# Altium schematic symbol library kmilo17pet-NSC_Interface.SchLib: 1433 symbols (part 47 of 51)
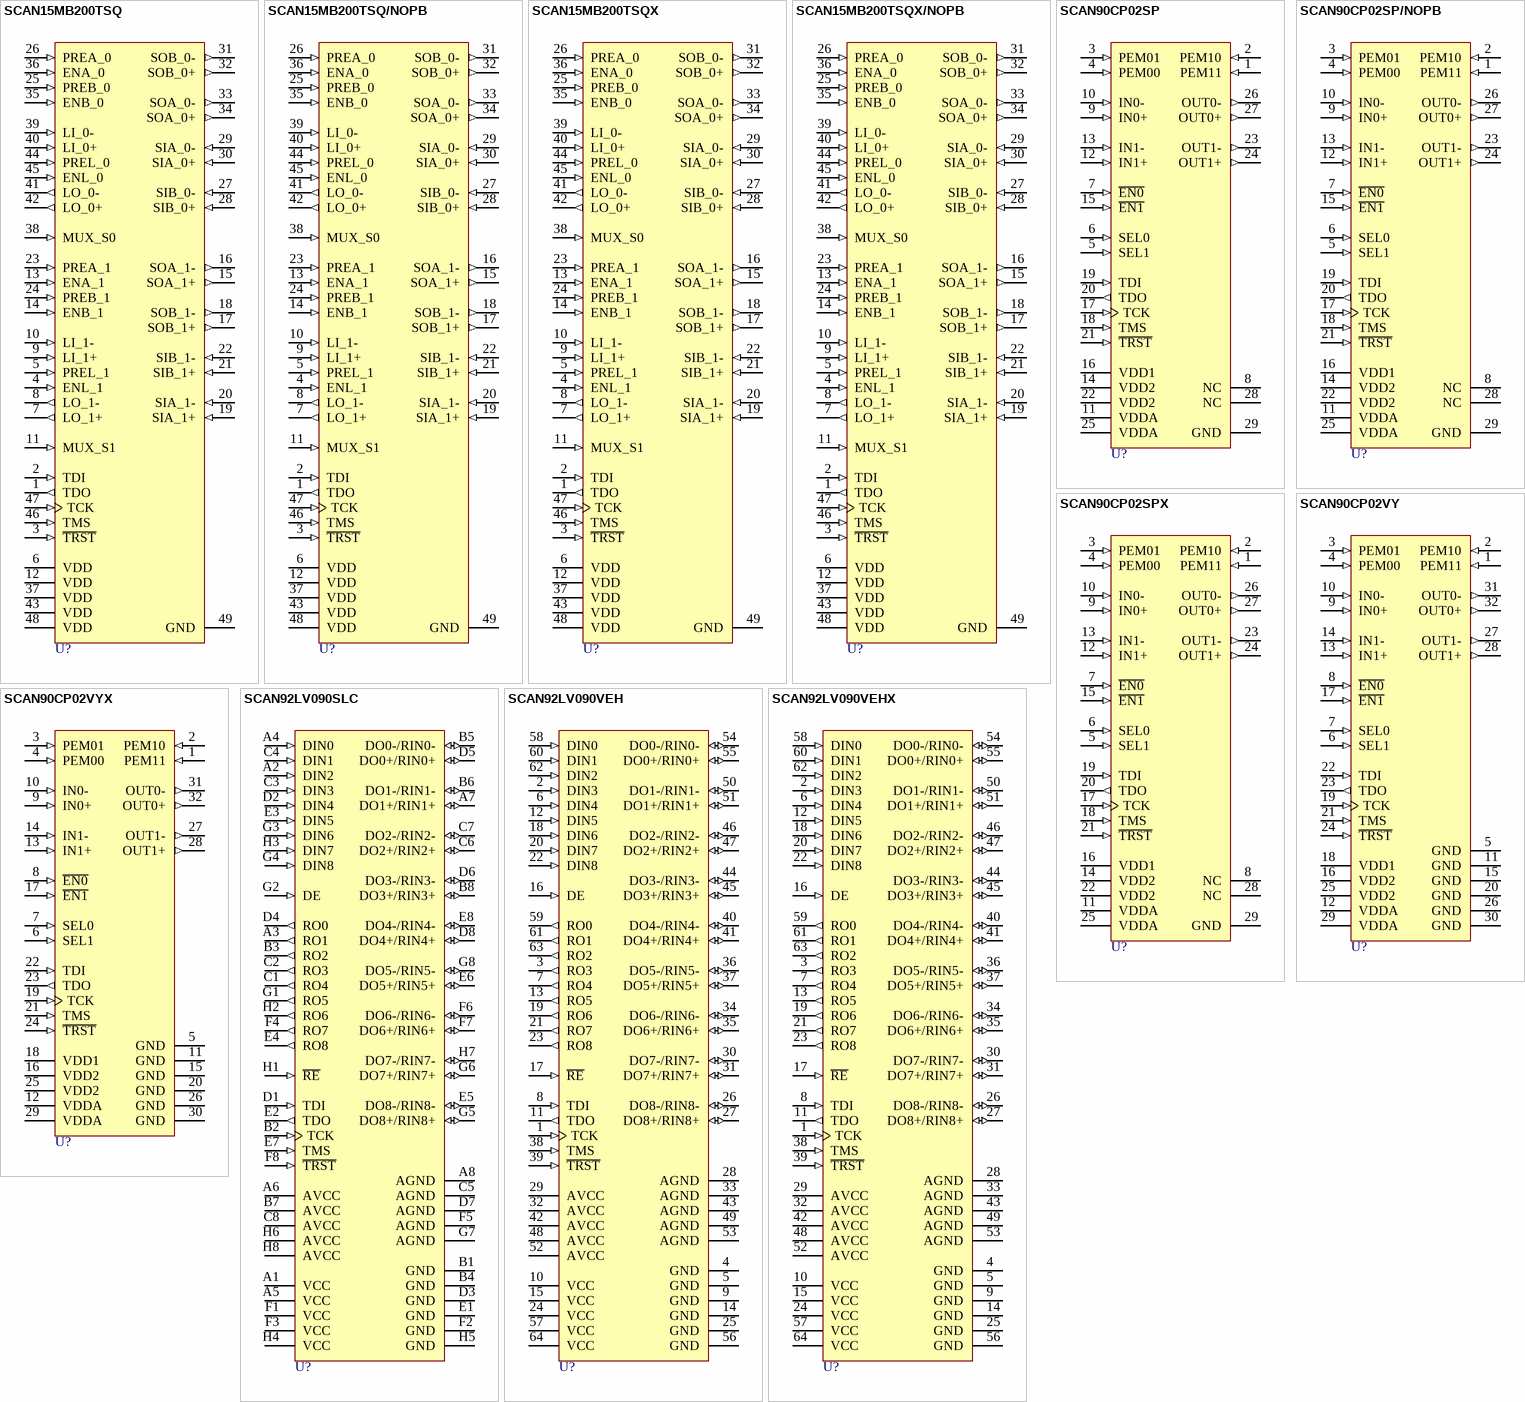
[diagram p170: symbols SCAN15MB200TSQ to SCAN92LV090VEHX]

## SCAN90CP02SPX
designator U?
1.5 Gbps 2x2 LVDS Crosspoint Switch with Pre-Emphasis and IEEE 1149.6, 28-pin LLP; PartNumber: SCAN90CP02SPX; Manufacturer: National Semiconductor; PackageTopMarking: NS*UZXYTT*SCP02SP; PowerWise: N; CompType: Interface IC; High-Reliability: Y; DatasheetVersion: Mar-2009; PackageVersion: revA, Aug-2003; PackageReference: SPA28A; PackageDescription: LLP, Plastic, Quad, 5 x 5 x 0.6mm Body, 28 Lead, 0.5mm Pitch, No Pullback; RoHS: N; PinCount: 28; Code_JEDEC: MO-220-WHHD-3; ComponentLink1Description: Manufacturer URL; ComponentLink1URL: http://www.national.com/; ComponentLink2Description: SCAN90CP02 Datasheet; ComponentLink2URL: http://www.national.com/ds/SC/SCAN90CP02.pdf; ComponentLink3Description: SCAN90CP02 Web Page; ComponentLink3URL: http://www.national.com/pf/SC/SCAN90CP02.html; ComponentLink4Description: SPA28A Package Page; ComponentLink4URL: http://www.national.com/packaging/folders/spa28a.html
footprint SPA28A (QFN, 28-Leads, Body 5x5mm, Pitch 0.5mm, Thermal Pad 3.7x3.7mm, NSC Recommended)
pins: 1 PEM11 (in), 2 PEM10 (in), 3 PEM01 (in), 4 PEM00 (in), 5 SEL1 (in), 6 SEL0 (in), 7 ~{EN0} (in), 8 NC, 9 IN0+ (in), 10 IN0- (in), 11 VDDA (power), 12 IN1+ (in), 13 IN1- (in), 14 VDD2 (power), 15 ~{EN1} (in), 16 VDD1 (power), 17 TCK (in), 18 TMS (in), 19 TDI (in), 20 TDO (out), 21 ~{TRST} (in), 22 VDD2 (power), 23 OUT1- (out), 24 OUT1+ (out), 25 VDDA (power), 26 OUT0- (out), 27 OUT0+ (out), 28 NC, 29 GND (power)

## SCAN90CP02VY
designator U?
1.5 Gbps 2x2 LVDS Crosspoint Switch with Pre-Emphasis and IEEE 1149.6, 32-pin LQFP; PartNumber: SCAN90CP02VY; Manufacturer: National Semiconductor; PackageTopMarking: NSUZXYTT*SCAN90*CP02VY; PowerWise: N; CompType: Interface IC; High-Reliability: Y; DatasheetVersion: Mar-2009; PackageVersion: revE, Dec-1999; PackageReference: VBE32A; PackageDescription: LQFP, JEDEC, Metric, 7 x 7 x 1.4mm, 32 Lead; RoHS: N; PinCount: 32; ComponentLink1Description: Manufacturer URL; ComponentLink1URL: http://www.national.com/; ComponentLink2Description: SCAN90CP02 Datasheet; ComponentLink2URL: http://www.national.com/ds/SC/SCAN90CP02.pdf; ComponentLink3Description: SCAN90CP02 Web Page; ComponentLink3URL: http://www.national.com/pf/SC/SCAN90CP02.html; ComponentLink4Description: VBE32A Package Page; ComponentLink4URL: http://www.national.com/packaging/folders/vbe32a.html
footprint VBE32A_N (Thin QFP, 32-Leads, Body 7x7mm, Pitch 0.8mm, IPC Medium Density)
footprint VBE32A_L (Thin QFP, 32-Leads, Body 7x7mm, Pitch 0.8mm, IPC High Density)
footprint VBE32A_M (Thin QFP, 32-Leads, Body 7x7mm, Pitch 0.8mm, IPC Low Density)
pins: 1 PEM11 (in), 2 PEM10 (in), 3 PEM01 (in), 4 PEM00 (in), 5 GND (power), 6 SEL1 (in), 7 SEL0 (in), 8 ~{EN0} (in), 9 IN0+ (in), 10 IN0- (in), 11 GND (power), 12 VDDA (power), 13 IN1+ (in), 14 IN1- (in), 15 GND (power), 16 VDD2 (power), 17 ~{EN1} (in), 18 VDD1 (power), 19 TCK (in), 20 GND (power), 21 TMS (in), 22 TDI (in), 23 TDO (out), 24 ~{TRST} (in), 25 VDD2 (power), 26 GND (power), 27 OUT1- (out), 28 OUT1+ (out), 29 VDDA (power), 30 GND (power), 31 OUT0- (out), 32 OUT0+ (out)

## SCAN90CP02VYX
designator U?
1.5 Gbps 2x2 LVDS Crosspoint Switch with Pre-Emphasis and IEEE 1149.6, 32-pin LQFP; PartNumber: SCAN90CP02VYX; Manufacturer: National Semiconductor; PackageTopMarking: NSUZXYTT*SCAN90*CP02VY; PowerWise: N; CompType: Interface IC; High-Reliability: Y; DatasheetVersion: Mar-2009; PackageVersion: revE, Dec-1999; PackageReference: VBE32A; PackageDescription: LQFP, JEDEC, Metric, 7 x 7 x 1.4mm, 32 Lead; RoHS: N; PinCount: 32; ComponentLink1Description: Manufacturer URL; ComponentLink1URL: http://www.national.com/; ComponentLink2Description: SCAN90CP02 Datasheet; ComponentLink2URL: http://www.national.com/ds/SC/SCAN90CP02.pdf; ComponentLink3Description: SCAN90CP02 Web Page; ComponentLink3URL: http://www.national.com/pf/SC/SCAN90CP02.html; ComponentLink4Description: VBE32A Package Page; ComponentLink4URL: http://www.national.com/packaging/folders/vbe32a.html
footprint VBE32A_N (Thin QFP, 32-Leads, Body 7x7mm, Pitch 0.8mm, IPC Medium Density)
footprint VBE32A_L (Thin QFP, 32-Leads, Body 7x7mm, Pitch 0.8mm, IPC High Density)
footprint VBE32A_M (Thin QFP, 32-Leads, Body 7x7mm, Pitch 0.8mm, IPC Low Density)
pins: 1 PEM11 (in), 2 PEM10 (in), 3 PEM01 (in), 4 PEM00 (in), 5 GND (power), 6 SEL1 (in), 7 SEL0 (in), 8 ~{EN0} (in), 9 IN0+ (in), 10 IN0- (in), 11 GND (power), 12 VDDA (power), 13 IN1+ (in), 14 IN1- (in), 15 GND (power), 16 VDD2 (power), 17 ~{EN1} (in), 18 VDD1 (power), 19 TCK (in), 20 GND (power), 21 TMS (in), 22 TDI (in), 23 TDO (out), 24 ~{TRST} (in), 25 VDD2 (power), 26 GND (power), 27 OUT1- (out), 28 OUT1+ (out), 29 VDDA (power), 30 GND (power), 31 OUT0- (out), 32 OUT0+ (out)

## SCAN92LV090SLC
designator U?
9 Channel Bus LVDS Transceiver with Boundary SCAN, 64-pin FBGA; PartNumber: SCAN92LV090SLC; Manufacturer: National Semiconductor; PackageTopMarking: NSUZXYTTE#*SCAN92LV090*SLC; PowerWise: N; CompType: Interface IC; High-Reliability: Y; DatasheetVersion: Dec-2006; PackageVersion: revC, Jan, 2003; PackageReference: SLC64A; PackageDescription: FBGA, Plastic, Laminated, 8 x 8 x 1.4mm Body, 64 Ball, 0.8mm Pitch; RoHS: N; PinCount: 64; ComponentLink1Description: Manufacturer URL; ComponentLink1URL: http://www.national.com/; ComponentLink2Description: SCAN92LV090 Datasheet; ComponentLink2URL: http://www.national.com/ds/SC/SCAN92LV090.pdf; ComponentLink3Description: SCAN92LV090 Web Page; ComponentLink3URL: http://www.national.com/pf/SC/SCAN92LV090.html; ComponentLink4Description: SLC64A Package Page; ComponentLink4URL: http://www.national.com/packaging/folders/slc64a.html
footprint SLC64A (BGA, 64-Leads, Body 8x8mm, Pitch 0.8mm)
pins: A1 VCC (power), A2 DIN2 (in), A3 RO1 (out), A4 DIN0 (in), A5 VCC (power), A6 AVCC (power), A7 DO1+/RIN1+ (io), A8 AGND (power), B1 GND (power), B2 TCK (in), B3 RO2 (out), B4 GND (power), B5 DO0-/RIN0- (io), B6 DO1-/RIN1- (io), B7 AVCC (power), B8 DO3+/RIN3+ (io), C1 RO4 (out), C2 RO3 (out), C3 DIN3 (in), C4 DIN1 (in), C5 AGND (power), C6 DO2+/RIN2+ (io), C7 DO2-/RIN2- (io), C8 AVCC (power), D1 TDI (in), D2 DIN4 (in), D3 GND (power), D4 RO0 (out), D5 DO0+/RIN0+ (io), D6 DO3-/RIN3- (io), D7 AGND (power), D8 DO4+/RIN4+ (io), E1 GND (power), E2 TDO (out), E3 DIN5 (in), E4 RO8 (out), E5 DO8-/RIN8- (io), E6 DO5+/RIN5+ (io), E7 TMS (in), E8 DO4-/RIN4- (io), F1 VCC (power), F2 GND (power), F3 VCC (power), F4 RO7 (out), F5 AGND (power), F6 DO6-/RIN6- (io), F7 DO6+/RIN6+ (io), F8 ~{TRST} (in), G1 RO5 (out), G2 DE (in), G3 DIN6 (in), G4 DIN8 (in), G5 DO8+/RIN8+ (io), G6 DO7+/RIN7+ (io), G7 AGND (power), G8 DO5-/RIN5- (io), H1 ~{RE} (in), H2 RO6 (out), H3 DIN7 (in), H4 VCC (power), H5 GND (power), H6 AVCC (power), H7 DO7-/RIN7- (io), H8 AVCC (power)

## SCAN92LV090VEH
designator U?
9 Channel Bus LVDS Transceiver with Boundary SCAN, 64-pin LQFP; PartNumber: SCAN92LV090VEH; Manufacturer: National Semiconductor; PackageTopMarking: NSUZXYYTTE#*SCAN92LV090*VEH; PowerWise: N; CompType: Interface IC; High-Reliability: Y; DatasheetVersion: Dec-2006; PackageVersion: revC, Dec-1999; PackageReference: VEH64A; PackageDescription: LQFP, Jedec, Metric, 10 x 10 x 1.4mm, 64 Lead; RoHS: N; PinCount: 64; Code_JEDEC: MS-026-BCD; ComponentLink1Description: Manufacturer URL; ComponentLink1URL: http://www.national.com/; ComponentLink2Description: SCAN92LV090 Datasheet; ComponentLink2URL: http://www.national.com/ds/SC/SCAN92LV090.pdf; ComponentLink3Description: SCAN92LV090 Web Page; ComponentLink3URL: http://www.national.com/pf/SC/SCAN92LV090.html; ComponentLink4Description: VEH64A Package Page; ComponentLink4URL: http://www.national.com/packaging/folders/veh64a.html
footprint VEH64A_N (Thin QFP, 64-Leads, Body 10x10mm, Pitch 0.5mm, IPC Medium Density)
footprint VEH64A_L (Thin QFP, 64-Leads, Body 10x10mm, Pitch 0.5mm, IPC High Density)
footprint VEH64A_M (Thin QFP, 64-Leads, Body 10x10mm, Pitch 0.5mm, IPC Low Density)
pins: 1 TCK (in), 2 DIN3 (in), 3 RO3 (out), 4 GND (power), 5 GND (power), 6 DIN4 (in), 7 RO4 (out), 8 TDI (in), 9 GND (power), 10 VCC (power), 11 TDO (out), 12 DIN5 (in), 13 RO5 (out), 14 GND (power), 15 VCC (power), 16 DE (in), 17 ~{RE} (in), 18 DIN6 (in), 19 RO6 (out), 20 DIN7 (in), 21 RO7 (out), 22 DIN8 (in), 23 RO8 (out), 24 VCC (power), 25 GND (power), 26 DO8-/RIN8- (io), 27 DO8+/RIN8+ (io), 28 AGND (power), 29 AVCC (power), 30 DO7-/RIN7- (io), 31 DO7+/RIN7+ (io), 32 AVCC (power), 33 AGND (power), 34 DO6-/RIN6- (io), 35 DO6+/RIN6+ (io), 36 DO5-/RIN5- (io), 37 DO5+/RIN5+ (io), 38 TMS (in), 39 ~{TRST} (in), 40 DO4-/RIN4- (io), 41 DO4+/RIN4+ (io), 42 AVCC (power), 43 AGND (power), 44 DO3-/RIN3- (io), 45 DO3+/RIN3+ (io), 46 DO2-/RIN2- (io), 47 DO2+/RIN2+ (io), 48 AVCC (power), 49 AGND (power), 50 DO1-/RIN1- (io), 51 DO1+/RIN1+ (io), 52 AVCC (power), 53 AGND (power), 54 DO0-/RIN0- (io), 55 DO0+/RIN0+ (io), 56 GND (power), 57 VCC (power), 58 DIN0 (in), 59 RO0 (out), 60 DIN1 (in), 61 RO1 (out), 62 DIN2 (in), 63 RO2 (out), 64 VCC (power)

## SCAN92LV090VEHX
designator U?
9 Channel Bus LVDS Transceiver with Boundary SCAN, 64-pin LQFP; PartNumber: SCAN92LV090VEHX; Manufacturer: National Semiconductor; PackageTopMarking: NSUZXYYTTE#*SCAN92LV090*VEH; PowerWise: N; CompType: Interface IC; High-Reliability: Y; DatasheetVersion: Dec-2006; PackageVersion: revC, Dec-1999; PackageReference: VEH64A; PackageDescription: LQFP, Jedec, Metric, 10 x 10 x 1.4mm, 64 Lead; RoHS: N; PinCount: 64; Code_JEDEC: MS-026-BCD; ComponentLink1Description: Manufacturer URL; ComponentLink1URL: http://www.national.com/; ComponentLink2Description: SCAN92LV090 Datasheet; ComponentLink2URL: http://www.national.com/ds/SC/SCAN92LV090.pdf; ComponentLink3Description: SCAN92LV090 Web Page; ComponentLink3URL: http://www.national.com/pf/SC/SCAN92LV090.html; ComponentLink4Description: VEH64A Package Page; ComponentLink4URL: http://www.national.com/packaging/folders/veh64a.html
footprint VEH64A_N (Thin QFP, 64-Leads, Body 10x10mm, Pitch 0.5mm, IPC Medium Density)
footprint VEH64A_L (Thin QFP, 64-Leads, Body 10x10mm, Pitch 0.5mm, IPC High Density)
footprint VEH64A_M (Thin QFP, 64-Leads, Body 10x10mm, Pitch 0.5mm, IPC Low Density)
pins: 1 TCK (in), 2 DIN3 (in), 3 RO3 (out), 4 GND (power), 5 GND (power), 6 DIN4 (in), 7 RO4 (out), 8 TDI (in), 9 GND (power), 10 VCC (power), 11 TDO (out), 12 DIN5 (in), 13 RO5 (out), 14 GND (power), 15 VCC (power), 16 DE (in), 17 ~{RE} (in), 18 DIN6 (in), 19 RO6 (out), 20 DIN7 (in), 21 RO7 (out), 22 DIN8 (in), 23 RO8 (out), 24 VCC (power), 25 GND (power), 26 DO8-/RIN8- (io), 27 DO8+/RIN8+ (io), 28 AGND (power), 29 AVCC (power), 30 DO7-/RIN7- (io), 31 DO7+/RIN7+ (io), 32 AVCC (power), 33 AGND (power), 34 DO6-/RIN6- (io), 35 DO6+/RIN6+ (io), 36 DO5-/RIN5- (io), 37 DO5+/RIN5+ (io), 38 TMS (in), 39 ~{TRST} (in), 40 DO4-/RIN4- (io), 41 DO4+/RIN4+ (io), 42 AVCC (power), 43 AGND (power), 44 DO3-/RIN3- (io), 45 DO3+/RIN3+ (io), 46 DO2-/RIN2- (io), 47 DO2+/RIN2+ (io), 48 AVCC (power), 49 AGND (power), 50 DO1-/RIN1- (io), 51 DO1+/RIN1+ (io), 52 AVCC (power), 53 AGND (power), 54 DO0-/RIN0- (io), 55 DO0+/RIN0+ (io), 56 GND (power), 57 VCC (power), 58 DIN0 (in), 59 RO0 (out), 60 DIN1 (in), 61 RO1 (out), 62 DIN2 (in), 63 RO2 (out), 64 VCC (power)

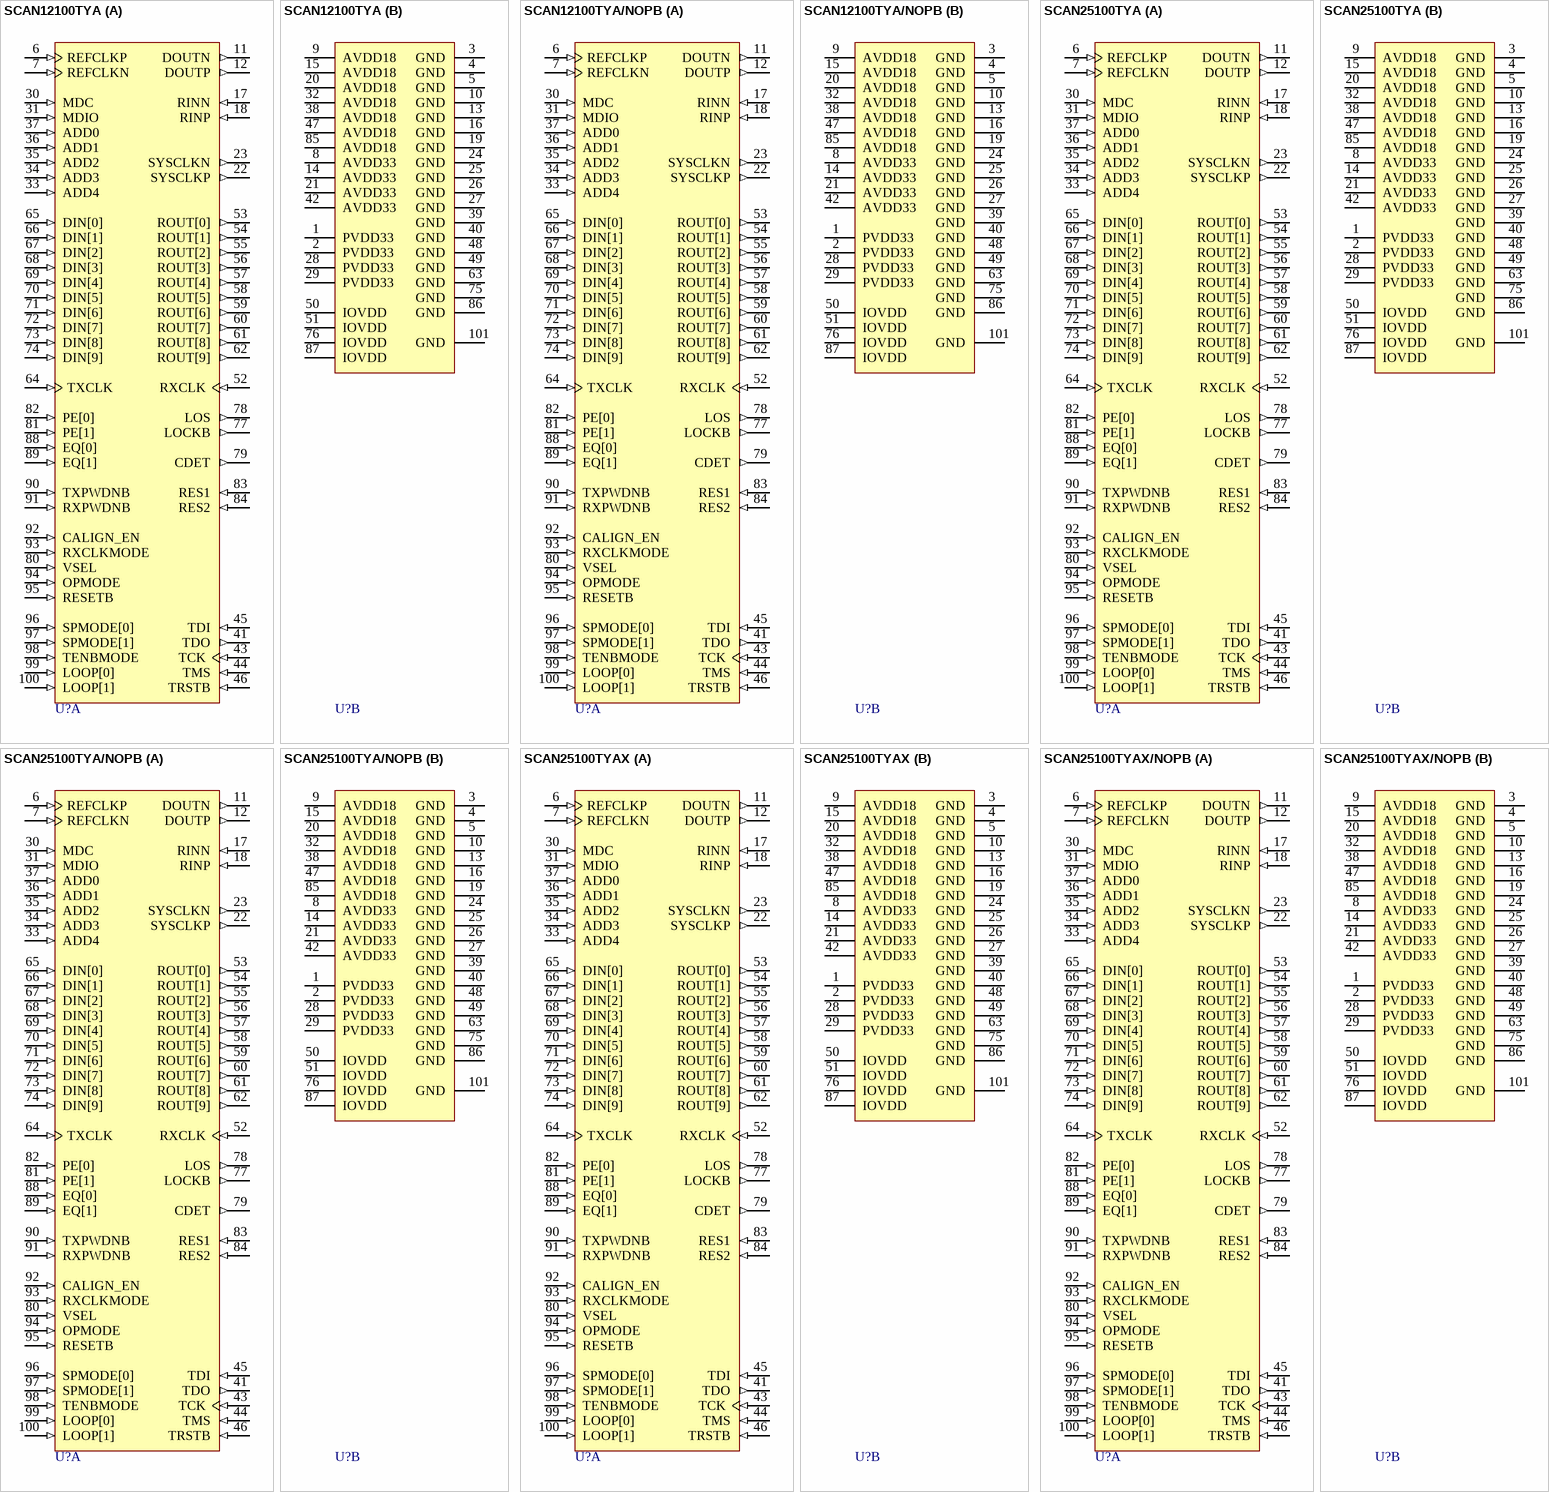
[diagram p113: symbols SCAN12100TYA to SCAN25100TYAX/NOPB]

## SCAN12100TYA
designator U?
1228.8 and 614.4 Mbps CPRI SerDes with Integrated 30.72 MHz Clocking and Precision Delay Calibration Measurement, 100-pin TQFP-EP; PartNumber: SCAN12100TYA; Manufacturer: National Semiconductor; PackageTopMarking: NSUZXYYTT*SCAN12100TYA; PowerWise: N; CompType: Interface IC; High-Reliability: Y; DatasheetVersion: May-2008; PackageVersion: revA, Jun-2005; PackageReference: VXF100B; PackageDescription: TQFP, 14 x 14 x 1mm, 100 Lead, 0.5mm Pitch, Exposed Pad, 6.5 x 6.5mm; RoHS: Y; PinCount: 100; Code_JEDEC: MS-026-AED-HD; ComponentLink1Description: Manufacturer URL; ComponentLink1URL: http://www.national.com/; ComponentLink2Description: SCAN12100 Datasheet; ComponentLink2URL: http://www.national.com/ds/SC/SCAN12100.pdf; ComponentLink3Description: SCAN12100 Web Page; ComponentLink3URL: http://www.national.com/pf/SC/SCAN12100.html; ComponentLink4Description: VXF100B Package Page; ComponentLink4URL: http://www.national.com/packaging/folders/vxf100b.html
footprint VXF100B_N (Thin QFP, 100-Leads, Body 14x14mm, Pitch 0.5mm, Exposed Pad, IPC Medium Density)
footprint VXF100B_L (Thin QFP, 100-Leads, Body 14x14mm, Pitch 0.5mm, Exposed Pad, IPC High Density)
footprint VXF100B_M (Thin QFP, 100-Leads, Body 14x14mm, Pitch 0.5mm, Exposed Pad, IPC Low Density)
part A pins: 6 REFCLKP (in), 7 REFCLKN (in), 11 DOUTN (out), 12 DOUTP (out), 17 RINN (in), 18 RINP (in), 22 SYSCLKP (out), 23 SYSCLKN (out), 30 MDC (in), 31 MDIO (in), 33 ADD4 (in), 34 ADD3 (in), 35 ADD2 (in), 36 ADD1 (in), 37 ADD0 (in), 41 TDO (out), 43 TCK (in), 44 TMS (in), 45 TDI (in), 46 TRSTB (in), 52 RXCLK (in), 53 ROUT[0] (out), 54 ROUT[1] (out), 55 ROUT[2] (out), 56 ROUT[3] (out), 57 ROUT[4] (out), 58 ROUT[5] (out), 59 ROUT[6] (out), 60 ROUT[7] (out), 61 ROUT[8] (out), 62 ROUT[9] (out), 64 TXCLK (in), 65 DIN[0] (in), 66 DIN[1] (in), 67 DIN[2] (in), 68 DIN[3] (in), 69 DIN[4] (in), 70 DIN[5] (in), 71 DIN[6] (in), 72 DIN[7] (in), 73 DIN[8] (in), 74 DIN[9] (in), 77 LOCKB (out), 78 LOS (out), 79 CDET (out), 80 VSEL (in), 81 PE[1] (in), 82 PE[0] (in), 83 RES1 (in), 84 RES2 (in), 88 EQ[0] (in), 89 EQ[1] (in), 90 TXPWDNB (in), 91 RXPWDNB (in), 92 CALIGN_EN (in), 93 RXCLKMODE (in), 94 OPMODE (in), 95 RESETB (in), 96 SPMODE[0] (in), 97 SPMODE[1] (in), 98 TENBMODE (in), 99 LOOP[0] (in), 100 LOOP[1] (in)
part B pins: 1 PVDD33 (power), 2 PVDD33 (power), 3 GND (power), 4 GND (power), 5 GND (power), 8 AVDD33 (power), 9 AVDD18 (power), 10 GND (power), 13 GND (power), 14 AVDD33 (power), 15 AVDD18 (power), 16 GND (power), 19 GND (power), 20 AVDD18 (power), 21 AVDD33 (power), 24 GND (power), 25 GND (power), 26 GND (power), 27 GND (power), 28 PVDD33 (power), 29 PVDD33 (power), 32 AVDD18 (power), 38 AVDD18 (power), 39 GND (power), 40 GND (power), 42 AVDD33 (power), 47 AVDD18 (power), 48 GND (power), 49 GND (power), 50 IOVDD (power), 51 IOVDD (power), 63 GND (power), 75 GND (power), 76 IOVDD (power), 85 AVDD18 (power), 86 GND (power), 87 IOVDD (power), 101 GND (power)

## SCAN12100TYA/NOPB
designator U?
1228.8 and 614.4 Mbps CPRI SerDes with Auto RE Sync and Precision Delay Calibration Measurement, 100-pin TQFP-EP, Pb-Free; PartNumber: SCAN12100TYA/NOPB; Manufacturer: National Semiconductor; PackageTopMarking: NSUZXYYTTE#*SCAN12100TYA; PowerWise: N; CompType: Interface IC; High-Reliability: Y; DatasheetVersion: May-2008; PackageVersion: revA, Jun-2005; PackageReference: VXF100B; PackageDescription: TQFP, 14 x 14 x 1mm, 100 Lead, 0.5mm Pitch, Exposed Pad, 6.5 x 6.5mm; RoHS: Y; PinCount: 100; Code_JEDEC: MS-026-AED-HD; ComponentLink1Description: Manufacturer URL; ComponentLink1URL: http://www.national.com/; ComponentLink2Description: SCAN12100 Datasheet; ComponentLink2URL: http://www.national.com/ds/SC/SCAN12100.pdf; ComponentLink3Description: SCAN12100 Web Page; ComponentLink3URL: http://www.national.com/pf/SC/SCAN12100.html; ComponentLink4Description: VXF100B Package Page; ComponentLink4URL: http://www.national.com/packaging/folders/vxf100b.html
footprint VXF100B_N (Thin QFP, 100-Leads, Body 14x14mm, Pitch 0.5mm, Exposed Pad, IPC Medium Density)
footprint VXF100B_L (Thin QFP, 100-Leads, Body 14x14mm, Pitch 0.5mm, Exposed Pad, IPC High Density)
footprint VXF100B_M (Thin QFP, 100-Leads, Body 14x14mm, Pitch 0.5mm, Exposed Pad, IPC Low Density)
part A pins: 6 REFCLKP (in), 7 REFCLKN (in), 11 DOUTN (out), 12 DOUTP (out), 17 RINN (in), 18 RINP (in), 22 SYSCLKP (out), 23 SYSCLKN (out), 30 MDC (in), 31 MDIO (in), 33 ADD4 (in), 34 ADD3 (in), 35 ADD2 (in), 36 ADD1 (in), 37 ADD0 (in), 41 TDO (out), 43 TCK (in), 44 TMS (in), 45 TDI (in), 46 TRSTB (in), 52 RXCLK (in), 53 ROUT[0] (out), 54 ROUT[1] (out), 55 ROUT[2] (out), 56 ROUT[3] (out), 57 ROUT[4] (out), 58 ROUT[5] (out), 59 ROUT[6] (out), 60 ROUT[7] (out), 61 ROUT[8] (out), 62 ROUT[9] (out), 64 TXCLK (in), 65 DIN[0] (in), 66 DIN[1] (in), 67 DIN[2] (in), 68 DIN[3] (in), 69 DIN[4] (in), 70 DIN[5] (in), 71 DIN[6] (in), 72 DIN[7] (in), 73 DIN[8] (in), 74 DIN[9] (in), 77 LOCKB (out), 78 LOS (out), 79 CDET (out), 80 VSEL (in), 81 PE[1] (in), 82 PE[0] (in), 83 RES1 (in), 84 RES2 (in), 88 EQ[0] (in), 89 EQ[1] (in), 90 TXPWDNB (in), 91 RXPWDNB (in), 92 CALIGN_EN (in), 93 RXCLKMODE (in), 94 OPMODE (in), 95 RESETB (in), 96 SPMODE[0] (in), 97 SPMODE[1] (in), 98 TENBMODE (in), 99 LOOP[0] (in), 100 LOOP[1] (in)
part B pins: 1 PVDD33 (power), 2 PVDD33 (power), 3 GND (power), 4 GND (power), 5 GND (power), 8 AVDD33 (power), 9 AVDD18 (power), 10 GND (power), 13 GND (power), 14 AVDD33 (power), 15 AVDD18 (power), 16 GND (power), 19 GND (power), 20 AVDD18 (power), 21 AVDD33 (power), 24 GND (power), 25 GND (power), 26 GND (power), 27 GND (power), 28 PVDD33 (power), 29 PVDD33 (power), 32 AVDD18 (power), 38 AVDD18 (power), 39 GND (power), 40 GND (power), 42 AVDD33 (power), 47 AVDD18 (power), 48 GND (power), 49 GND (power), 50 IOVDD (power), 51 IOVDD (power), 63 GND (power), 75 GND (power), 76 IOVDD (power), 85 AVDD18 (power), 86 GND (power), 87 IOVDD (power), 101 GND (power)

## SCAN25100TYA
designator U?
2457.6, 1228.8, and 614.4 Mbps CPRI SerDes with Integrated 30.72 MHz Clocking and Precision Delay Calibration Measurement, 100-pin TQFP-EP; PartNumber: SCAN25100TYA; Manufacturer: National Semiconductor; PackageTopMarking: NSUZXYYTTE#*SCAN25100TYA; PowerWise: N; CompType: Interface IC; High-Reliability: Y; DatasheetVersion: May-2008; PackageVersion: revA, Jun-2005; PackageReference: VXF100B; PackageDescription: TQFP, 14 x 14 x 1mm, 100 Lead, 0.5mm Pitch, Exposed Pad, 6.5 x 6.5mm; RoHS: N; PinCount: 100; Code_JEDEC: MS-026-AED-HD; ComponentLink1Description: Manufacturer URL; ComponentLink1URL: http://www.national.com/; ComponentLink2Description: SCAN25100 Datasheet; ComponentLink2URL: http://www.national.com/ds/SC/SCAN25100.pdf; ComponentLink3Description: SCAN25100 Web Page; ComponentLink3URL: http://www.national.com/pf/SC/SCAN25100.html; ComponentLink4Description: VXF100B Package Page; ComponentLink4URL: http://www.national.com/packaging/folders/vxf100b.html
footprint VXF100B_N (Thin QFP, 100-Leads, Body 14x14mm, Pitch 0.5mm, Exposed Pad, IPC Medium Density)
footprint VXF100B_L (Thin QFP, 100-Leads, Body 14x14mm, Pitch 0.5mm, Exposed Pad, IPC High Density)
footprint VXF100B_M (Thin QFP, 100-Leads, Body 14x14mm, Pitch 0.5mm, Exposed Pad, IPC Low Density)
part A pins: 6 REFCLKP (in), 7 REFCLKN (in), 11 DOUTN (out), 12 DOUTP (out), 17 RINN (in), 18 RINP (in), 22 SYSCLKP (out), 23 SYSCLKN (out), 30 MDC (in), 31 MDIO (in), 33 ADD4 (in), 34 ADD3 (in), 35 ADD2 (in), 36 ADD1 (in), 37 ADD0 (in), 41 TDO (out), 43 TCK (in), 44 TMS (in), 45 TDI (in), 46 TRSTB (in), 52 RXCLK (in), 53 ROUT[0] (out), 54 ROUT[1] (out), 55 ROUT[2] (out), 56 ROUT[3] (out), 57 ROUT[4] (out), 58 ROUT[5] (out), 59 ROUT[6] (out), 60 ROUT[7] (out), 61 ROUT[8] (out), 62 ROUT[9] (out), 64 TXCLK (in), 65 DIN[0] (in), 66 DIN[1] (in), 67 DIN[2] (in), 68 DIN[3] (in), 69 DIN[4] (in), 70 DIN[5] (in), 71 DIN[6] (in), 72 DIN[7] (in), 73 DIN[8] (in), 74 DIN[9] (in), 77 LOCKB (out), 78 LOS (out), 79 CDET (out), 80 VSEL (in), 81 PE[1] (in), 82 PE[0] (in), 83 RES1 (in), 84 RES2 (in), 88 EQ[0] (in), 89 EQ[1] (in), 90 TXPWDNB (in), 91 RXPWDNB (in), 92 CALIGN_EN (in), 93 RXCLKMODE (in), 94 OPMODE (in), 95 RESETB (in), 96 SPMODE[0] (in), 97 SPMODE[1] (in), 98 TENBMODE (in), 99 LOOP[0] (in), 100 LOOP[1] (in)
part B pins: 1 PVDD33 (power), 2 PVDD33 (power), 3 GND (power), 4 GND (power), 5 GND (power), 8 AVDD33 (power), 9 AVDD18 (power), 10 GND (power), 13 GND (power), 14 AVDD33 (power), 15 AVDD18 (power), 16 GND (power), 19 GND (power), 20 AVDD18 (power), 21 AVDD33 (power), 24 GND (power), 25 GND (power), 26 GND (power), 27 GND (power), 28 PVDD33 (power), 29 PVDD33 (power), 32 AVDD18 (power), 38 AVDD18 (power), 39 GND (power), 40 GND (power), 42 AVDD33 (power), 47 AVDD18 (power), 48 GND (power), 49 GND (power), 50 IOVDD (power), 51 IOVDD (power), 63 GND (power), 75 GND (power), 76 IOVDD (power), 85 AVDD18 (power), 86 GND (power), 87 IOVDD (power), 101 GND (power)

## SCAN25100TYA/NOPB
designator U?
2457.6, 1228.8, and 614.4 Mbps CPRI SerDes with Auto RE Sync and Precision Delay Calibration Measurement, 100-pin TQFP-EP, Pb-Free; PartNumber: SCAN25100TYA/NOPB; Manufacturer: National Semiconductor; PackageTopMarking: NSUZXYYTTE#*SCAN25100TYA; PowerWise: N; CompType: Interface IC; High-Reliability: Y; DatasheetVersion: May-2008; PackageVersion: revA, Jun-2005; PackageReference: VXF100B; PackageDescription: TQFP, 14 x 14 x 1mm, 100 Lead, 0.5mm Pitch, Exposed Pad, 6.5 x 6.5mm; RoHS: Y; PinCount: 100; Code_JEDEC: MS-026-AED-HD; ComponentLink1Description: Manufacturer URL; ComponentLink1URL: http://www.national.com/; ComponentLink2Description: SCAN25100 Datasheet; ComponentLink2URL: http://www.national.com/ds/SC/SCAN25100.pdf; ComponentLink3Description: SCAN25100 Web Page; ComponentLink3URL: http://www.national.com/pf/SC/SCAN25100.html; ComponentLink4Description: VXF100B Package Page; ComponentLink4URL: http://www.national.com/packaging/folders/vxf100b.html
footprint VXF100B_N (Thin QFP, 100-Leads, Body 14x14mm, Pitch 0.5mm, Exposed Pad, IPC Medium Density)
footprint VXF100B_L (Thin QFP, 100-Leads, Body 14x14mm, Pitch 0.5mm, Exposed Pad, IPC High Density)
footprint VXF100B_M (Thin QFP, 100-Leads, Body 14x14mm, Pitch 0.5mm, Exposed Pad, IPC Low Density)
part A pins: 6 REFCLKP (in), 7 REFCLKN (in), 11 DOUTN (out), 12 DOUTP (out), 17 RINN (in), 18 RINP (in), 22 SYSCLKP (out), 23 SYSCLKN (out), 30 MDC (in), 31 MDIO (in), 33 ADD4 (in), 34 ADD3 (in), 35 ADD2 (in), 36 ADD1 (in), 37 ADD0 (in), 41 TDO (out), 43 TCK (in), 44 TMS (in), 45 TDI (in), 46 TRSTB (in), 52 RXCLK (in), 53 ROUT[0] (out), 54 ROUT[1] (out), 55 ROUT[2] (out), 56 ROUT[3] (out), 57 ROUT[4] (out), 58 ROUT[5] (out), 59 ROUT[6] (out), 60 ROUT[7] (out), 61 ROUT[8] (out), 62 ROUT[9] (out), 64 TXCLK (in), 65 DIN[0] (in), 66 DIN[1] (in), 67 DIN[2] (in), 68 DIN[3] (in), 69 DIN[4] (in), 70 DIN[5] (in), 71 DIN[6] (in), 72 DIN[7] (in), 73 DIN[8] (in), 74 DIN[9] (in), 77 LOCKB (out), 78 LOS (out), 79 CDET (out), 80 VSEL (in), 81 PE[1] (in), 82 PE[0] (in), 83 RES1 (in), 84 RES2 (in), 88 EQ[0] (in), 89 EQ[1] (in), 90 TXPWDNB (in), 91 RXPWDNB (in), 92 CALIGN_EN (in), 93 RXCLKMODE (in), 94 OPMODE (in), 95 RESETB (in), 96 SPMODE[0] (in), 97 SPMODE[1] (in), 98 TENBMODE (in), 99 LOOP[0] (in), 100 LOOP[1] (in)
part B pins: 1 PVDD33 (power), 2 PVDD33 (power), 3 GND (power), 4 GND (power), 5 GND (power), 8 AVDD33 (power), 9 AVDD18 (power), 10 GND (power), 13 GND (power), 14 AVDD33 (power), 15 AVDD18 (power), 16 GND (power), 19 GND (power), 20 AVDD18 (power), 21 AVDD33 (power), 24 GND (power), 25 GND (power), 26 GND (power), 27 GND (power), 28 PVDD33 (power), 29 PVDD33 (power), 32 AVDD18 (power), 38 AVDD18 (power), 39 GND (power), 40 GND (power), 42 AVDD33 (power), 47 AVDD18 (power), 48 GND (power), 49 GND (power), 50 IOVDD (power), 51 IOVDD (power), 63 GND (power), 75 GND (power), 76 IOVDD (power), 85 AVDD18 (power), 86 GND (power), 87 IOVDD (power), 101 GND (power)

## SCAN25100TYAX
designator U?
2457.6, 1228.8, and 614.4 Mbps CPRI SerDes with Auto RE Sync and Precision Delay Calibration Measurement, 100-pin TQFP-EP; PartNumber: SCAN25100TYAX; Manufacturer: National Semiconductor; PackageTopMarking: NSUZXYYTTE#*SCAN25100TYA; PowerWise: N; CompType: Interface IC; High-Reliability: Y; DatasheetVersion: May-2008; PackageVersion: revA, Jun-2005; PackageReference: VXF100B; PackageDescription: TQFP, 14 x 14 x 1mm, 100 Lead, 0.5mm Pitch, Exposed Pad, 6.5 x 6.5mm; RoHS: N; PinCount: 100; Code_JEDEC: MS-026-AED-HD; ComponentLink1Description: Manufacturer URL; ComponentLink1URL: http://www.national.com/; ComponentLink2Description: SCAN25100 Datasheet; ComponentLink2URL: http://www.national.com/ds/SC/SCAN25100.pdf; ComponentLink3Description: SCAN25100 Web Page; ComponentLink3URL: http://www.national.com/pf/SC/SCAN25100.html; ComponentLink4Description: VXF100B Package Page; ComponentLink4URL: http://www.national.com/packaging/folders/vxf100b.html
footprint VXF100B_N (Thin QFP, 100-Leads, Body 14x14mm, Pitch 0.5mm, Exposed Pad, IPC Medium Density)
footprint VXF100B_L (Thin QFP, 100-Leads, Body 14x14mm, Pitch 0.5mm, Exposed Pad, IPC High Density)
footprint VXF100B_M (Thin QFP, 100-Leads, Body 14x14mm, Pitch 0.5mm, Exposed Pad, IPC Low Density)
part A pins: 6 REFCLKP (in), 7 REFCLKN (in), 11 DOUTN (out), 12 DOUTP (out), 17 RINN (in), 18 RINP (in), 22 SYSCLKP (out), 23 SYSCLKN (out), 30 MDC (in), 31 MDIO (in), 33 ADD4 (in), 34 ADD3 (in), 35 ADD2 (in), 36 ADD1 (in), 37 ADD0 (in), 41 TDO (out), 43 TCK (in), 44 TMS (in), 45 TDI (in), 46 TRSTB (in), 52 RXCLK (in), 53 ROUT[0] (out), 54 ROUT[1] (out), 55 ROUT[2] (out), 56 ROUT[3] (out), 57 ROUT[4] (out), 58 ROUT[5] (out), 59 ROUT[6] (out), 60 ROUT[7] (out), 61 ROUT[8] (out), 62 ROUT[9] (out), 64 TXCLK (in), 65 DIN[0] (in), 66 DIN[1] (in), 67 DIN[2] (in), 68 DIN[3] (in), 69 DIN[4] (in), 70 DIN[5] (in), 71 DIN[6] (in), 72 DIN[7] (in), 73 DIN[8] (in), 74 DIN[9] (in), 77 LOCKB (out), 78 LOS (out), 79 CDET (out), 80 VSEL (in), 81 PE[1] (in), 82 PE[0] (in), 83 RES1 (in), 84 RES2 (in), 88 EQ[0] (in), 89 EQ[1] (in), 90 TXPWDNB (in), 91 RXPWDNB (in), 92 CALIGN_EN (in), 93 RXCLKMODE (in), 94 OPMODE (in), 95 RESETB (in), 96 SPMODE[0] (in), 97 SPMODE[1] (in), 98 TENBMODE (in), 99 LOOP[0] (in), 100 LOOP[1] (in)
part B pins: 1 PVDD33 (power), 2 PVDD33 (power), 3 GND (power), 4 GND (power), 5 GND (power), 8 AVDD33 (power), 9 AVDD18 (power), 10 GND (power), 13 GND (power), 14 AVDD33 (power), 15 AVDD18 (power), 16 GND (power), 19 GND (power), 20 AVDD18 (power), 21 AVDD33 (power), 24 GND (power), 25 GND (power), 26 GND (power), 27 GND (power), 28 PVDD33 (power), 29 PVDD33 (power), 32 AVDD18 (power), 38 AVDD18 (power), 39 GND (power), 40 GND (power), 42 AVDD33 (power), 47 AVDD18 (power), 48 GND (power), 49 GND (power), 50 IOVDD (power), 51 IOVDD (power), 63 GND (power), 75 GND (power), 76 IOVDD (power), 85 AVDD18 (power), 86 GND (power), 87 IOVDD (power), 101 GND (power)

## SCAN25100TYAX/NOPB
designator U?
2457.6, 1228.8, and 614.4 Mbps CPRI SerDes with Auto RE Sync and Precision Delay Calibration Measurement, 100-pin TQFP-EP, Pb-Free; PartNumber: SCAN25100TYAX/NOPB; Manufacturer: National Semiconductor; PackageTopMarking: NSUZXYYTTE#*SCAN25100TYA; PowerWise: N; CompType: Interface IC; High-Reliability: Y; DatasheetVersion: May-2008; PackageVersion: revA, Jun-2005; PackageReference: VXF100B; PackageDescription: TQFP, 14 x 14 x 1mm, 100 Lead, 0.5mm Pitch, Exposed Pad, 6.5 x 6.5mm; RoHS: Y; PinCount: 100; Code_JEDEC: MS-026-AED-HD; ComponentLink1Description: Manufacturer URL; ComponentLink1URL: http://www.national.com/; ComponentLink2Description: SCAN25100 Datasheet; ComponentLink2URL: http://www.national.com/ds/SC/SCAN25100.pdf; ComponentLink3Description: SCAN25100 Web Page; ComponentLink3URL: http://www.national.com/pf/SC/SCAN25100.html; ComponentLink4Description: VXF100B Package Page; ComponentLink4URL: http://www.national.com/packaging/folders/vxf100b.html
footprint VXF100B_N (Thin QFP, 100-Leads, Body 14x14mm, Pitch 0.5mm, Exposed Pad, IPC Medium Density)
footprint VXF100B_L (Thin QFP, 100-Leads, Body 14x14mm, Pitch 0.5mm, Exposed Pad, IPC High Density)
footprint VXF100B_M (Thin QFP, 100-Leads, Body 14x14mm, Pitch 0.5mm, Exposed Pad, IPC Low Density)
part A pins: 6 REFCLKP (in), 7 REFCLKN (in), 11 DOUTN (out), 12 DOUTP (out), 17 RINN (in), 18 RINP (in), 22 SYSCLKP (out), 23 SYSCLKN (out), 30 MDC (in), 31 MDIO (in), 33 ADD4 (in), 34 ADD3 (in), 35 ADD2 (in), 36 ADD1 (in), 37 ADD0 (in), 41 TDO (out), 43 TCK (in), 44 TMS (in), 45 TDI (in), 46 TRSTB (in), 52 RXCLK (in), 53 ROUT[0] (out), 54 ROUT[1] (out), 55 ROUT[2] (out), 56 ROUT[3] (out), 57 ROUT[4] (out), 58 ROUT[5] (out), 59 ROUT[6] (out), 60 ROUT[7] (out), 61 ROUT[8] (out), 62 ROUT[9] (out), 64 TXCLK (in), 65 DIN[0] (in), 66 DIN[1] (in), 67 DIN[2] (in), 68 DIN[3] (in), 69 DIN[4] (in), 70 DIN[5] (in), 71 DIN[6] (in), 72 DIN[7] (in), 73 DIN[8] (in), 74 DIN[9] (in), 77 LOCKB (out), 78 LOS (out), 79 CDET (out), 80 VSEL (in), 81 PE[1] (in), 82 PE[0] (in), 83 RES1 (in), 84 RES2 (in), 88 EQ[0] (in), 89 EQ[1] (in), 90 TXPWDNB (in), 91 RXPWDNB (in), 92 CALIGN_EN (in), 93 RXCLKMODE (in), 94 OPMODE (in), 95 RESETB (in), 96 SPMODE[0] (in), 97 SPMODE[1] (in), 98 TENBMODE (in), 99 LOOP[0] (in), 100 LOOP[1] (in)
part B pins: 1 PVDD33 (power), 2 PVDD33 (power), 3 GND (power), 4 GND (power), 5 GND (power), 8 AVDD33 (power), 9 AVDD18 (power), 10 GND (power), 13 GND (power), 14 AVDD33 (power), 15 AVDD18 (power), 16 GND (power), 19 GND (power), 20 AVDD18 (power), 21 AVDD33 (power), 24 GND (power), 25 GND (power), 26 GND (power), 27 GND (power), 28 PVDD33 (power), 29 PVDD33 (power), 32 AVDD18 (power), 38 AVDD18 (power), 39 GND (power), 40 GND (power), 42 AVDD33 (power), 47 AVDD18 (power), 48 GND (power), 49 GND (power), 50 IOVDD (power), 51 IOVDD (power), 63 GND (power), 75 GND (power), 76 IOVDD (power), 85 AVDD18 (power), 86 GND (power), 87 IOVDD (power), 101 GND (power)

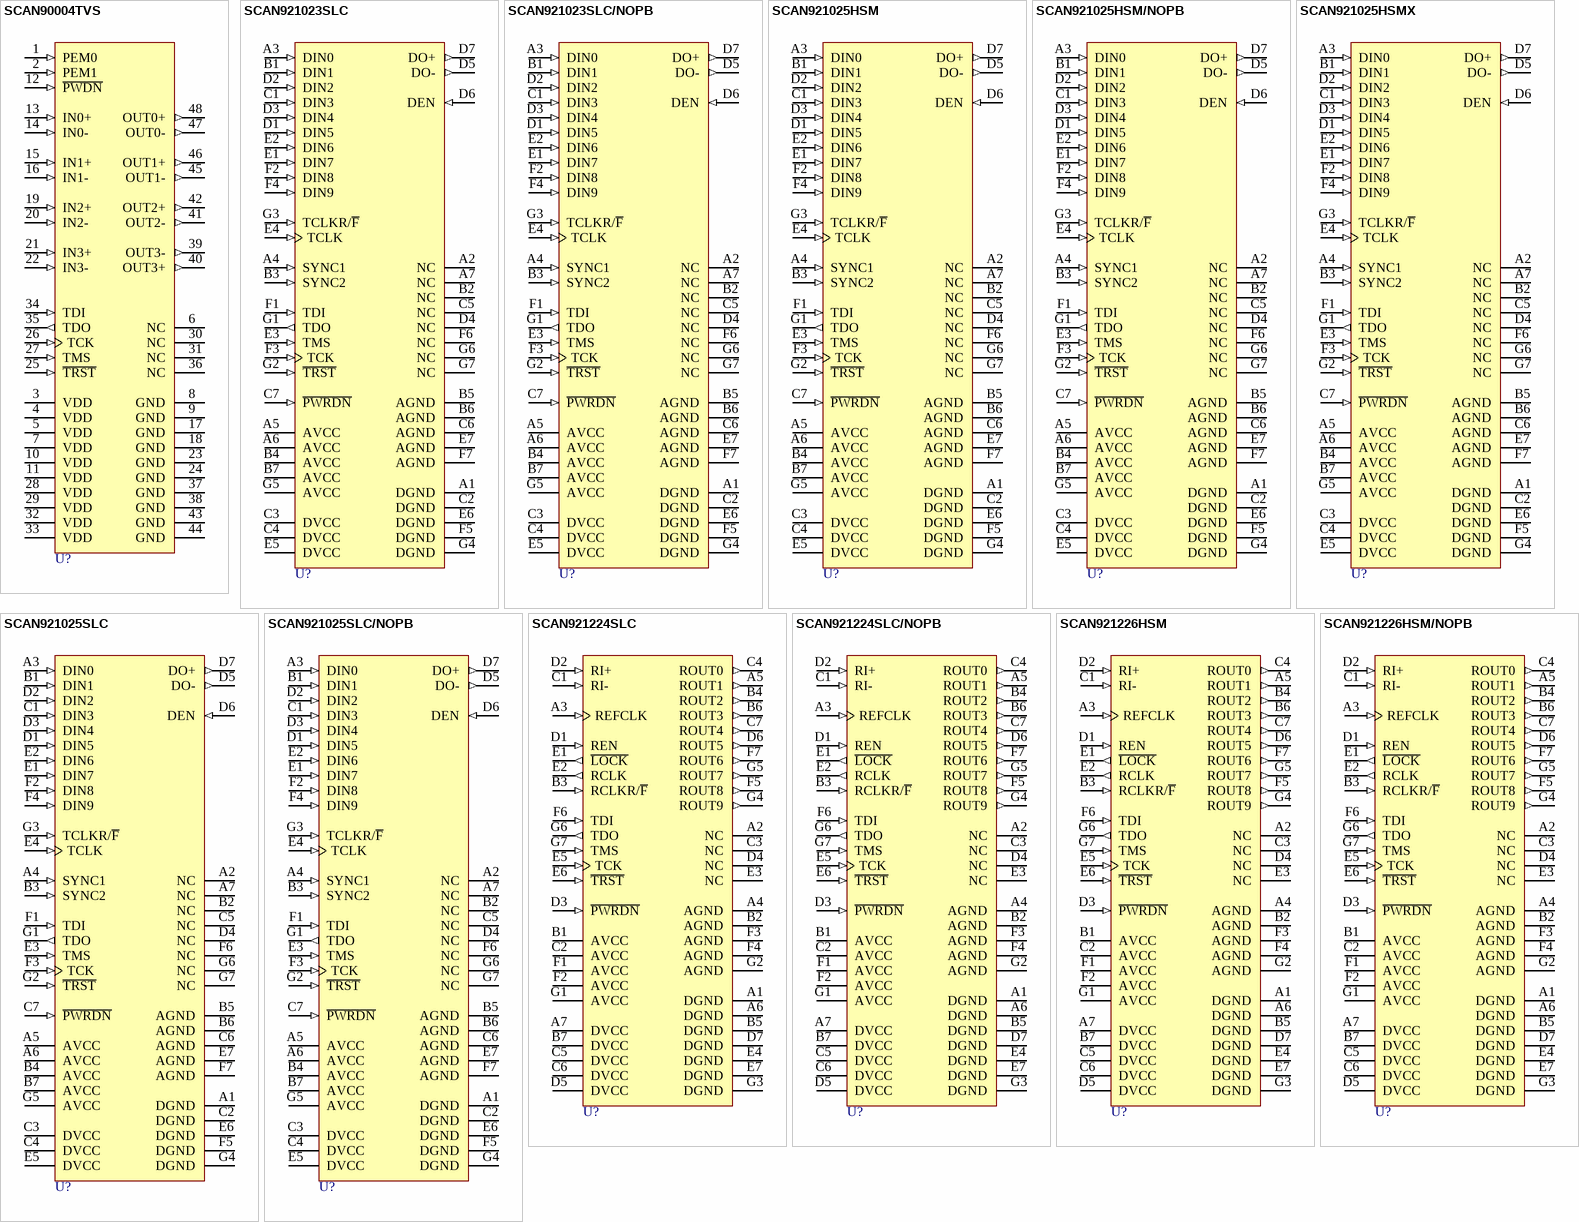
[diagram p114: symbols SCAN90004TVS to SCAN921226HSM/NOPB]

## SCAN90004TVS
designator U?
Four-Channel LVDS Repeaters with Pre-Emphasis and IEEE 1149.6, 48-pin TQFP; PartNumber: SCAN90004TVS; Manufacturer: National Semiconductor; PackageTopMarking: NSUZXYTT*SCAN*90004TVS; PowerWise: N; CompType: Interface IC; High-Reliability: Y; DatasheetVersion: Oct-2008; PackageVersion: revA, Apr-2000; PackageReference: VBC48A; PackageDescription: TQFP, Jedec Metric, 7 x 7 x 1mm, 48 Lead, 0.5mm Pitch; RoHS: N; PinCount: 48; Code_JEDEC: MS-026-ABC; ComponentLink1Description: Manufacturer URL; ComponentLink1URL: http://www.national.com/; ComponentLink2Description: SCAN90004 Datasheet; ComponentLink2URL: http://www.national.com/ds/SC/SCAN90004.pdf; ComponentLink3Description: SCAN90004 Web Page; ComponentLink3URL: http://www.national.com/pf/SC/SCAN90004.html; ComponentLink4Description: VBC48A Package Page; ComponentLink4URL: http://www.national.com/packaging/folders/vbc48a.html
footprint VBC48A_N (Thin QFP, 48-Leads, Body 7x7mm, Pitch 0.5mm, IPC Medium Density)
footprint VBC48A_L (Thin QFP, 48-Leads, Body 7x7mm, Pitch 0.5mm, IPC High Density)
footprint VBC48A_M (Thin QFP, 48-Leads, Body 7x7mm, Pitch 0.5mm, IPC Low Density)
pins: 1 PEM0 (in), 2 PEM1 (in), 3 VDD (power), 4 VDD (power), 5 VDD (power), 6 NC, 7 VDD (power), 8 GND (power), 9 GND (power), 10 VDD (power), 11 VDD (power), 12 ~{PWDN} (in), 13 IN0+ (in), 14 IN0- (in), 15 IN1+ (in), 16 IN1- (in), 17 GND (power), 18 GND (power), 19 IN2+ (in), 20 IN2- (in), 21 IN3+ (in), 22 IN3- (in), 23 GND (power), 24 GND (power), 25 ~{TRST} (in), 26 TCK (in), 27 TMS (in), 28 VDD (power), 29 VDD (power), 30 NC, 31 NC, 32 VDD (power), 33 VDD (power), 34 TDI (in), 35 TDO (out), 36 NC, 37 GND (power), 38 GND (power), 39 OUT3- (out), 40 OUT3+ (out), 41 OUT2- (out), 42 OUT2+ (out), 43 GND (power), 44 GND (power), 45 OUT1- (out), 46 OUT1+ (out), 47 OUT0- (out), 48 OUT0+ (out)

## SCAN921023SLC
designator U?
20 MHz-66MHz 10-Bit Serializer with IEEE 1149.1 Test Access, 49-pin FBGA; PartNumber: SCAN921023SLC; Manufacturer: National Semiconductor; PackageTopMarking: NSUZXYTTE#*SCAN921023*SLC; PowerWise: N; CompType: Interface IC; High-Reliability: Y; DatasheetVersion: Apr-2001; PackageVersion: revB, Jan, 2003; PackageReference: SLC49A; PackageDescription: FBGA, Plastic, Laminated, 7 x 7 x 1.4mm Body, 49 Ball, 0.8mm Pitch; RoHS: N; PinCount: 49; ComponentLink1Description: Manufacturer URL; ComponentLink1URL: http://www.national.com/; ComponentLink2Description: SCAN921023 Datasheet; ComponentLink2URL: http://www.national.com/ds/SC/SCAN921023.pdf; ComponentLink3Description: SCAN921023 Web Page; ComponentLink3URL: http://www.national.com/pf/SC/SCAN921023.html; ComponentLink4Description: SLC49A Package Page; ComponentLink4URL: http://www.national.com/packaging/folders/slc49a.html
footprint SLC49A (BGA, 49-Leads, Body 7x7mm, Pitch 0.8mm)
pins: A1 DGND (power), A2 NC, A3 DIN0 (in), A4 SYNC1 (in), A5 AVCC (power), A6 AVCC (power), A7 NC, B1 DIN1 (in), B2 NC, B3 SYNC2 (in), B4 AVCC (power), B5 AGND (power), B6 AGND (power), B7 AVCC (power), C1 DIN3 (in), C2 DGND (power), C3 DVCC (power), C4 DVCC (power), C5 NC, C6 AGND (power), C7 ~{PWRDN} (in), D1 DIN5 (in), D2 DIN2 (in), D3 DIN4 (in), D4 NC, D5 DO- (out), D6 DEN (in), D7 DO+ (out), E1 DIN7 (in), E2 DIN6 (in), E3 TMS (in), E4 TCLK (in), E5 DVCC (power), E6 DGND (power), E7 AGND (power), F1 TDI (in), F2 DIN8 (in), F3 TCK (in), F4 DIN9 (in), F5 DGND (power), F6 NC, F7 AGND (power), G1 TDO (out), G2 ~{TRST} (in), G3 TCLKR/~{F} (in), G4 DGND (power), G5 AVCC (power), G6 NC, G7 NC

## SCAN921023SLC/NOPB
designator U?
20 MHz-66MHz 10-Bit Serializer with IEEE 1149.1 Test Access, 49-pin FBGA, Pb-Free; PartNumber: SCAN921023SLC/NOPB; Manufacturer: National Semiconductor; PackageTopMarking: NSUZXYTTE#*SCAN921023*SLC; PowerWise: N; CompType: Interface IC; High-Reliability: Y; DatasheetVersion: Apr-2001; PackageVersion: revB, Jan, 2003; PackageReference: SLC49A; PackageDescription: FBGA, Plastic, Laminated, 7 x 7 x 1.4mm Body, 49 Ball, 0.8mm Pitch; RoHS: Y; PinCount: 49; ComponentLink1Description: Manufacturer URL; ComponentLink1URL: http://www.national.com/; ComponentLink2Description: SCAN921023 Datasheet; ComponentLink2URL: http://www.national.com/ds/SC/SCAN921023.pdf; ComponentLink3Description: SCAN921023 Web Page; ComponentLink3URL: http://www.national.com/pf/SC/SCAN921023.html; ComponentLink4Description: SLC49A Package Page; ComponentLink4URL: http://www.national.com/packaging/folders/slc49a.html
footprint SLC49A (BGA, 49-Leads, Body 7x7mm, Pitch 0.8mm)
pins: A1 DGND (power), A2 NC, A3 DIN0 (in), A4 SYNC1 (in), A5 AVCC (power), A6 AVCC (power), A7 NC, B1 DIN1 (in), B2 NC, B3 SYNC2 (in), B4 AVCC (power), B5 AGND (power), B6 AGND (power), B7 AVCC (power), C1 DIN3 (in), C2 DGND (power), C3 DVCC (power), C4 DVCC (power), C5 NC, C6 AGND (power), C7 ~{PWRDN} (in), D1 DIN5 (in), D2 DIN2 (in), D3 DIN4 (in), D4 NC, D5 DO- (out), D6 DEN (in), D7 DO+ (out), E1 DIN7 (in), E2 DIN6 (in), E3 TMS (in), E4 TCLK (in), E5 DVCC (power), E6 DGND (power), E7 AGND (power), F1 TDI (in), F2 DIN8 (in), F3 TCK (in), F4 DIN9 (in), F5 DGND (power), F6 NC, F7 AGND (power), G1 TDO (out), G2 ~{TRST} (in), G3 TCLKR/~{F} (in), G4 DGND (power), G5 AVCC (power), G6 NC, G7 NC

## SCAN921025HSM
designator U?
High Temperature 20MHz - 80MHz 10-Bit Serializer with IEEE 1149.1 Test Access, 49-pin FBGA; PartNumber: SCAN921025HSM; Manufacturer: National Semiconductor; PackageTopMarking: NSUZXYTTE#*SCAN921025*HSM; PowerWise: N; CompType: Interface IC; High-Reliability: Y; DatasheetVersion: Dec-2005; PackageVersion: revB, Jan, 2003; PackageReference: SLC49A; PackageDescription: FBGA, Plastic, Laminated, 7 x 7 x 1.4mm Body, 49 Ball, 0.8mm Pitch; RoHS: N; PinCount: 49; ComponentLink1Description: Manufacturer URL; ComponentLink1URL: http://www.national.com/; ComponentLink2Description: SCAN921025H Datasheet; ComponentLink2URL: http://www.national.com/ds/SC/SCAN921025H.pdf; ComponentLink3Description: SCAN921025H Web Page; ComponentLink3URL: http://www.national.com/pf/SC/SCAN921025H.html; ComponentLink4Description: SLC49A Package Page; ComponentLink4URL: http://www.national.com/packaging/folders/slc49a.html
footprint SLC49A (BGA, 49-Leads, Body 7x7mm, Pitch 0.8mm)
pins: A1 DGND (power), A2 NC, A3 DIN0 (in), A4 SYNC1 (in), A5 AVCC (power), A6 AVCC (power), A7 NC, B1 DIN1 (in), B2 NC, B3 SYNC2 (in), B4 AVCC (power), B5 AGND (power), B6 AGND (power), B7 AVCC (power), C1 DIN3 (in), C2 DGND (power), C3 DVCC (power), C4 DVCC (power), C5 NC, C6 AGND (power), C7 ~{PWRDN} (in), D1 DIN5 (in), D2 DIN2 (in), D3 DIN4 (in), D4 NC, D5 DO- (out), D6 DEN (in), D7 DO+ (out), E1 DIN7 (in), E2 DIN6 (in), E3 TMS (in), E4 TCLK (in), E5 DVCC (power), E6 DGND (power), E7 AGND (power), F1 TDI (in), F2 DIN8 (in), F3 TCK (in), F4 DIN9 (in), F5 DGND (power), F6 NC, F7 AGND (power), G1 TDO (out), G2 ~{TRST} (in), G3 TCLKR/~{F} (in), G4 DGND (power), G5 AVCC (power), G6 NC, G7 NC

## SCAN921025HSM/NOPB
designator U?
High Temperature 20MHz - 80MHz 10-Bit Serializer with IEEE 1149.1 Test Access, 49-pin FBGA, Pb-Free; PartNumber: SCAN921025HSM/NOPB; Manufacturer: National Semiconductor; PackageTopMarking: NSUZXYTTE#*SCAN921025*HSM; PowerWise: N; CompType: Interface IC; High-Reliability: Y; DatasheetVersion: Dec-2005; PackageVersion: revB, Jan, 2003; PackageReference: SLC49A; PackageDescription: FBGA, Plastic, Laminated, 7 x 7 x 1.4mm Body, 49 Ball, 0.8mm Pitch; RoHS: Y; PinCount: 49; ComponentLink1Description: Manufacturer URL; ComponentLink1URL: http://www.national.com/; ComponentLink2Description: SCAN921025H Datasheet; ComponentLink2URL: http://www.national.com/ds/SC/SCAN921025H.pdf; ComponentLink3Description: SCAN921025H Web Page; ComponentLink3URL: http://www.national.com/pf/SC/SCAN921025H.html; ComponentLink4Description: SLC49A Package Page; ComponentLink4URL: http://www.national.com/packaging/folders/slc49a.html
footprint SLC49A (BGA, 49-Leads, Body 7x7mm, Pitch 0.8mm)
pins: A1 DGND (power), A2 NC, A3 DIN0 (in), A4 SYNC1 (in), A5 AVCC (power), A6 AVCC (power), A7 NC, B1 DIN1 (in), B2 NC, B3 SYNC2 (in), B4 AVCC (power), B5 AGND (power), B6 AGND (power), B7 AVCC (power), C1 DIN3 (in), C2 DGND (power), C3 DVCC (power), C4 DVCC (power), C5 NC, C6 AGND (power), C7 ~{PWRDN} (in), D1 DIN5 (in), D2 DIN2 (in), D3 DIN4 (in), D4 NC, D5 DO- (out), D6 DEN (in), D7 DO+ (out), E1 DIN7 (in), E2 DIN6 (in), E3 TMS (in), E4 TCLK (in), E5 DVCC (power), E6 DGND (power), E7 AGND (power), F1 TDI (in), F2 DIN8 (in), F3 TCK (in), F4 DIN9 (in), F5 DGND (power), F6 NC, F7 AGND (power), G1 TDO (out), G2 ~{TRST} (in), G3 TCLKR/~{F} (in), G4 DGND (power), G5 AVCC (power), G6 NC, G7 NC

## SCAN921025HSMX
designator U?
High Temperature 20MHz - 80MHz 10-Bit Serializer with IEEE 1149.1 Test Access, 49-pin FBGA; PartNumber: SCAN921025HSMX; Manufacturer: National Semiconductor; PackageTopMarking: NSUZXYTTE#*SCAN921025*HSM; PowerWise: N; CompType: Interface IC; High-Reliability: Y; DatasheetVersion: Dec-2005; PackageVersion: revB, Jan, 2003; PackageReference: SLC49A; PackageDescription: FBGA, Plastic, Laminated, 7 x 7 x 1.4mm Body, 49 Ball, 0.8mm Pitch; RoHS: N; PinCount: 49; ComponentLink1Description: Manufacturer URL; ComponentLink1URL: http://www.national.com/; ComponentLink2Description: SCAN921025H Datasheet; ComponentLink2URL: http://www.national.com/ds/SC/SCAN921025H.pdf; ComponentLink3Description: SCAN921025H Web Page; ComponentLink3URL: http://www.national.com/pf/SC/SCAN921025H.html; ComponentLink4Description: SLC49A Package Page; ComponentLink4URL: http://www.national.com/packaging/folders/slc49a.html
footprint SLC49A (BGA, 49-Leads, Body 7x7mm, Pitch 0.8mm)
pins: A1 DGND (power), A2 NC, A3 DIN0 (in), A4 SYNC1 (in), A5 AVCC (power), A6 AVCC (power), A7 NC, B1 DIN1 (in), B2 NC, B3 SYNC2 (in), B4 AVCC (power), B5 AGND (power), B6 AGND (power), B7 AVCC (power), C1 DIN3 (in), C2 DGND (power), C3 DVCC (power), C4 DVCC (power), C5 NC, C6 AGND (power), C7 ~{PWRDN} (in), D1 DIN5 (in), D2 DIN2 (in), D3 DIN4 (in), D4 NC, D5 DO- (out), D6 DEN (in), D7 DO+ (out), E1 DIN7 (in), E2 DIN6 (in), E3 TMS (in), E4 TCLK (in), E5 DVCC (power), E6 DGND (power), E7 AGND (power), F1 TDI (in), F2 DIN8 (in), F3 TCK (in), F4 DIN9 (in), F5 DGND (power), F6 NC, F7 AGND (power), G1 TDO (out), G2 ~{TRST} (in), G3 TCLKR/~{F} (in), G4 DGND (power), G5 AVCC (power), G6 NC, G7 NC

## SCAN921025SLC
designator U?
30MHz - 80MHz 10-Bit Serializer with IEEE 1149.1 Test Access, 49-pin FBGA; PartNumber: SCAN921025SLC; Manufacturer: National Semiconductor; PackageTopMarking: NSUZXYTTE#*SCAN921025*SLC; PowerWise: N; CompType: Interface IC; High-Reliability: Y; DatasheetVersion: Dec-2001; PackageVersion: revB, Jan, 2003; PackageReference: SLC49A; PackageDescription: FBGA, Plastic, Laminated, 7 x 7 x 1.4mm Body, 49 Ball, 0.8mm Pitch; RoHS: N; PinCount: 49; ComponentLink1Description: Manufacturer URL; ComponentLink1URL: http://www.national.com/; ComponentLink2Description: SCAN921025 Datasheet; ComponentLink2URL: http://www.national.com/ds/SC/SCAN921025.pdf; ComponentLink3Description: SCAN921025 Web Page; ComponentLink3URL: http://www.national.com/pf/SC/SCAN921025.html; ComponentLink4Description: SLC49A Package Page; ComponentLink4URL: http://www.national.com/packaging/folders/slc49a.html
footprint SLC49A (BGA, 49-Leads, Body 7x7mm, Pitch 0.8mm)
pins: A1 DGND (power), A2 NC, A3 DIN0 (in), A4 SYNC1 (in), A5 AVCC (power), A6 AVCC (power), A7 NC, B1 DIN1 (in), B2 NC, B3 SYNC2 (in), B4 AVCC (power), B5 AGND (power), B6 AGND (power), B7 AVCC (power), C1 DIN3 (in), C2 DGND (power), C3 DVCC (power), C4 DVCC (power), C5 NC, C6 AGND (power), C7 ~{PWRDN} (in), D1 DIN5 (in), D2 DIN2 (in), D3 DIN4 (in), D4 NC, D5 DO- (out), D6 DEN (in), D7 DO+ (out), E1 DIN7 (in), E2 DIN6 (in), E3 TMS (in), E4 TCLK (in), E5 DVCC (power), E6 DGND (power), E7 AGND (power), F1 TDI (in), F2 DIN8 (in), F3 TCK (in), F4 DIN9 (in), F5 DGND (power), F6 NC, F7 AGND (power), G1 TDO (out), G2 ~{TRST} (in), G3 TCLKR/~{F} (in), G4 DGND (power), G5 AVCC (power), G6 NC, G7 NC

## SCAN921025SLC/NOPB
designator U?
30MHz - 80MHz 10-Bit Serializer with IEEE 1149.1 Test Access, 49 pin FBGA; PartNumber: SCAN921025SLC/NOPB; Manufacturer: National Semiconductor; PackageTopMarking: NSUZXYTTE#*SCAN921025*SLC; PowerWise: N; CompType: Interface IC; High-Reliability: Y; DatasheetVersion: Dec-2001; PackageVersion: revB, Jan, 2003; PackageReference: SLC49A; PackageDescription: FBGA, Plastic, Laminated, 7 x 7 x 1.4mm Body, 49 Ball, 0.8mm Pitch; RoHS: Y; PinCount: 49; ComponentLink1Description: Manufacturer URL; ComponentLink1URL: http://www.national.com/; ComponentLink2Description: SCAN921025 Datasheet; ComponentLink2URL: http://www.national.com/ds/SC/SCAN921025.pdf; ComponentLink3Description: SCAN921025 Web Page; ComponentLink3URL: http://www.national.com/pf/SC/SCAN921025.html; ComponentLink4Description: SLC49A Package Page; ComponentLink4URL: http://www.national.com/packaging/folders/slc49a.html
footprint SLC49A (BGA, 49-Leads, Body 7x7mm, Pitch 0.8mm)
pins: A1 DGND (power), A2 NC, A3 DIN0 (in), A4 SYNC1 (in), A5 AVCC (power), A6 AVCC (power), A7 NC, B1 DIN1 (in), B2 NC, B3 SYNC2 (in), B4 AVCC (power), B5 AGND (power), B6 AGND (power), B7 AVCC (power), C1 DIN3 (in), C2 DGND (power), C3 DVCC (power), C4 DVCC (power), C5 NC, C6 AGND (power), C7 ~{PWRDN} (in), D1 DIN5 (in), D2 DIN2 (in), D3 DIN4 (in), D4 NC, D5 DO- (out), D6 DEN (in), D7 DO+ (out), E1 DIN7 (in), E2 DIN6 (in), E3 TMS (in), E4 TCLK (in), E5 DVCC (power), E6 DGND (power), E7 AGND (power), F1 TDI (in), F2 DIN8 (in), F3 TCK (in), F4 DIN9 (in), F5 DGND (power), F6 NC, F7 AGND (power), G1 TDO (out), G2 ~{TRST} (in), G3 TCLKR/~{F} (in), G4 DGND (power), G5 AVCC (power), G6 NC, G7 NC

## SCAN921224SLC
designator U?
20 MHz-66MHz 10-Bit Deserializer with IEEE 1149.1 Test Access, 49-pin FBGA; PartNumber: SCAN921224SLC; Manufacturer: National Semiconductor; PackageTopMarking: NSUZXYTTE#*SCAN921224*SLC; PowerWise: N; CompType: Interface IC; High-Reliability: Y; DatasheetVersion: Apr-2001; PackageVersion: revB, Jan, 2003; PackageReference: SLC49A; PackageDescription: FBGA, Plastic, Laminated, 7 x 7 x 1.4mm Body, 49 Ball, 0.8mm Pitch; RoHS: N; PinCount: 49; ComponentLink1Description: Manufacturer URL; ComponentLink1URL: http://www.national.com/; ComponentLink2Description: SCAN921224 Datasheet; ComponentLink2URL: http://www.national.com/ds/SC/SCAN921224.pdf; ComponentLink3Description: SCAN921224 Web Page; ComponentLink3URL: http://www.national.com/pf/SC/SCAN921224.html; ComponentLink4Description: SLC49A Package Page; ComponentLink4URL: http://www.national.com/packaging/folders/slc49a.html
footprint SLC49A (BGA, 49-Leads, Body 7x7mm, Pitch 0.8mm)
pins: A1 DGND (power), A2 NC, A3 REFCLK (in), A4 AGND (power), A5 ROUT1 (out), A6 DGND (power), A7 DVCC (power), B1 AVCC (power), B2 AGND (power), B3 RCLKR/~{F} (in), B4 ROUT2 (out), B5 DGND (power), B6 ROUT3 (out), B7 DVCC (power), C1 RI- (in), C2 AVCC (power), C3 NC, C4 ROUT0 (out), C5 DVCC (power), C6 DVCC (power), C7 ROUT4 (out), D1 REN (in), D2 RI+ (in), D3 ~{PWRDN} (in), D4 NC, D5 DVCC (power), D6 ROUT5 (out), D7 DGND (power), E1 ~{LOCK} (out), E2 RCLK (out), E3 NC, E4 DGND (power), E5 TCK (in), E6 ~{TRST} (in), E7 DGND (power), F1 AVCC (power), F2 AVCC (power), F3 AGND (power), F4 AGND (power), F5 ROUT8 (out), F6 TDI (in), F7 ROUT6 (out), G1 AVCC (power), G2 AGND (power), G3 DGND (power), G4 ROUT9 (out), G5 ROUT7 (out), G6 TDO (out), G7 TMS (in)

## SCAN921224SLC/NOPB
designator U?
20 MHz-66MHz 10-Bit Deserializer with IEEE 1149.1 Test Access, 49-pin FBGA, Pb-Free; PartNumber: SCAN921224SLC/NOPB; Manufacturer: National Semiconductor; PackageTopMarking: NSUZXYTTE#*SCAN921224*SLC; PowerWise: N; CompType: Interface IC; High-Reliability: Y; DatasheetVersion: Apr-2001; PackageVersion: revB, Jan, 2003; PackageReference: SLC49A; PackageDescription: FBGA, Plastic, Laminated, 7 x 7 x 1.4mm Body, 49 Ball, 0.8mm Pitch; RoHS: Y; PinCount: 49; ComponentLink1Description: Manufacturer URL; ComponentLink1URL: http://www.national.com/; ComponentLink2Description: SCAN921224 Datasheet; ComponentLink2URL: http://www.national.com/ds/SC/SCAN921224.pdf; ComponentLink3Description: SCAN921224 Web Page; ComponentLink3URL: http://www.national.com/pf/SC/SCAN921224.html; ComponentLink4Description: SLC49A Package Page; ComponentLink4URL: http://www.national.com/packaging/folders/slc49a.html
footprint SLC49A (BGA, 49-Leads, Body 7x7mm, Pitch 0.8mm)
pins: A1 DGND (power), A2 NC, A3 REFCLK (in), A4 AGND (power), A5 ROUT1 (out), A6 DGND (power), A7 DVCC (power), B1 AVCC (power), B2 AGND (power), B3 RCLKR/~{F} (in), B4 ROUT2 (out), B5 DGND (power), B6 ROUT3 (out), B7 DVCC (power), C1 RI- (in), C2 AVCC (power), C3 NC, C4 ROUT0 (out), C5 DVCC (power), C6 DVCC (power), C7 ROUT4 (out), D1 REN (in), D2 RI+ (in), D3 ~{PWRDN} (in), D4 NC, D5 DVCC (power), D6 ROUT5 (out), D7 DGND (power), E1 ~{LOCK} (out), E2 RCLK (out), E3 NC, E4 DGND (power), E5 TCK (in), E6 ~{TRST} (in), E7 DGND (power), F1 AVCC (power), F2 AVCC (power), F3 AGND (power), F4 AGND (power), F5 ROUT8 (out), F6 TDI (in), F7 ROUT6 (out), G1 AVCC (power), G2 AGND (power), G3 DGND (power), G4 ROUT9 (out), G5 ROUT7 (out), G6 TDO (out), G7 TMS (in)

## SCAN921226HSM
designator U?
High Temperature 20MHz - 80MHz 10-Bit Deserializer with IEEE 1149.1 Test Access, 49-pin FBGA; PartNumber: SCAN921226HSM; Manufacturer: National Semiconductor; PackageTopMarking: NSUZXYTTE#*SCAN921226*HSM; PowerWise: N; CompType: Interface IC; High-Reliability: Y; DatasheetVersion: Dec-2005; PackageVersion: revB, Jan, 2003; PackageReference: SLC49A; PackageDescription: FBGA, Plastic, Laminated, 7 x 7 x 1.4mm Body, 49 Ball, 0.8mm Pitch; RoHS: N; PinCount: 49; ComponentLink1Description: Manufacturer URL; ComponentLink1URL: http://www.national.com/; ComponentLink2Description: SCAN921226H Datasheet; ComponentLink2URL: http://www.national.com/ds/SC/SCAN921226H.pdf; ComponentLink3Description: SCAN921226H Web Page; ComponentLink3URL: http://www.national.com/pf/SC/SCAN921226H.html; ComponentLink4Description: SLC49A Package Page; ComponentLink4URL: http://www.national.com/packaging/folders/slc49a.html
footprint SLC49A (BGA, 49-Leads, Body 7x7mm, Pitch 0.8mm)
pins: A1 DGND (power), A2 NC, A3 REFCLK (in), A4 AGND (power), A5 ROUT1 (out), A6 DGND (power), A7 DVCC (power), B1 AVCC (power), B2 AGND (power), B3 RCLKR/~{F} (in), B4 ROUT2 (out), B5 DGND (power), B6 ROUT3 (out), B7 DVCC (power), C1 RI- (in), C2 AVCC (power), C3 NC, C4 ROUT0 (out), C5 DVCC (power), C6 DVCC (power), C7 ROUT4 (out), D1 REN (in), D2 RI+ (in), D3 ~{PWRDN} (in), D4 NC, D5 DVCC (power), D6 ROUT5 (out), D7 DGND (power), E1 ~{LOCK} (out), E2 RCLK (out), E3 NC, E4 DGND (power), E5 TCK (in), E6 ~{TRST} (in), E7 DGND (power), F1 AVCC (power), F2 AVCC (power), F3 AGND (power), F4 AGND (power), F5 ROUT8 (out), F6 TDI (in), F7 ROUT6 (out), G1 AVCC (power), G2 AGND (power), G3 DGND (power), G4 ROUT9 (out), G5 ROUT7 (out), G6 TDO (out), G7 TMS (in)

## SCAN921226HSM/NOPB
designator U?
High Temperature 20MHz - 80MHz 10-Bit Deserializer with IEEE 1149.1 Test Access, 49-pin FBGA, Pb-Free; PartNumber: SCAN921226HSM/NOPB; Manufacturer: National Semiconductor; PackageTopMarking: NSUZXYTTE#*SCAN921226*HSM; PowerWise: N; CompType: Interface IC; High-Reliability: Y; DatasheetVersion: Dec-2005; PackageVersion: revB, Jan, 2003; PackageReference: SLC49A; PackageDescription: FBGA, Plastic, Laminated, 7 x 7 x 1.4mm Body, 49 Ball, 0.8mm Pitch; RoHS: Y; PinCount: 49; ComponentLink1Description: Manufacturer URL; ComponentLink1URL: http://www.national.com/; ComponentLink2Description: SCAN921226H Datasheet; ComponentLink2URL: http://www.national.com/ds/SC/SCAN921226H.pdf; ComponentLink3Description: SCAN921226H Web Page; ComponentLink3URL: http://www.national.com/pf/SC/SCAN921226H.html; ComponentLink4Description: SLC49A Package Page; ComponentLink4URL: http://www.national.com/packaging/folders/slc49a.html
footprint SLC49A (BGA, 49-Leads, Body 7x7mm, Pitch 0.8mm)
pins: A1 DGND (power), A2 NC, A3 REFCLK (in), A4 AGND (power), A5 ROUT1 (out), A6 DGND (power), A7 DVCC (power), B1 AVCC (power), B2 AGND (power), B3 RCLKR/~{F} (in), B4 ROUT2 (out), B5 DGND (power), B6 ROUT3 (out), B7 DVCC (power), C1 RI- (in), C2 AVCC (power), C3 NC, C4 ROUT0 (out), C5 DVCC (power), C6 DVCC (power), C7 ROUT4 (out), D1 REN (in), D2 RI+ (in), D3 ~{PWRDN} (in), D4 NC, D5 DVCC (power), D6 ROUT5 (out), D7 DGND (power), E1 ~{LOCK} (out), E2 RCLK (out), E3 NC, E4 DGND (power), E5 TCK (in), E6 ~{TRST} (in), E7 DGND (power), F1 AVCC (power), F2 AVCC (power), F3 AGND (power), F4 AGND (power), F5 ROUT8 (out), F6 TDI (in), F7 ROUT6 (out), G1 AVCC (power), G2 AGND (power), G3 DGND (power), G4 ROUT9 (out), G5 ROUT7 (out), G6 TDO (out), G7 TMS (in)

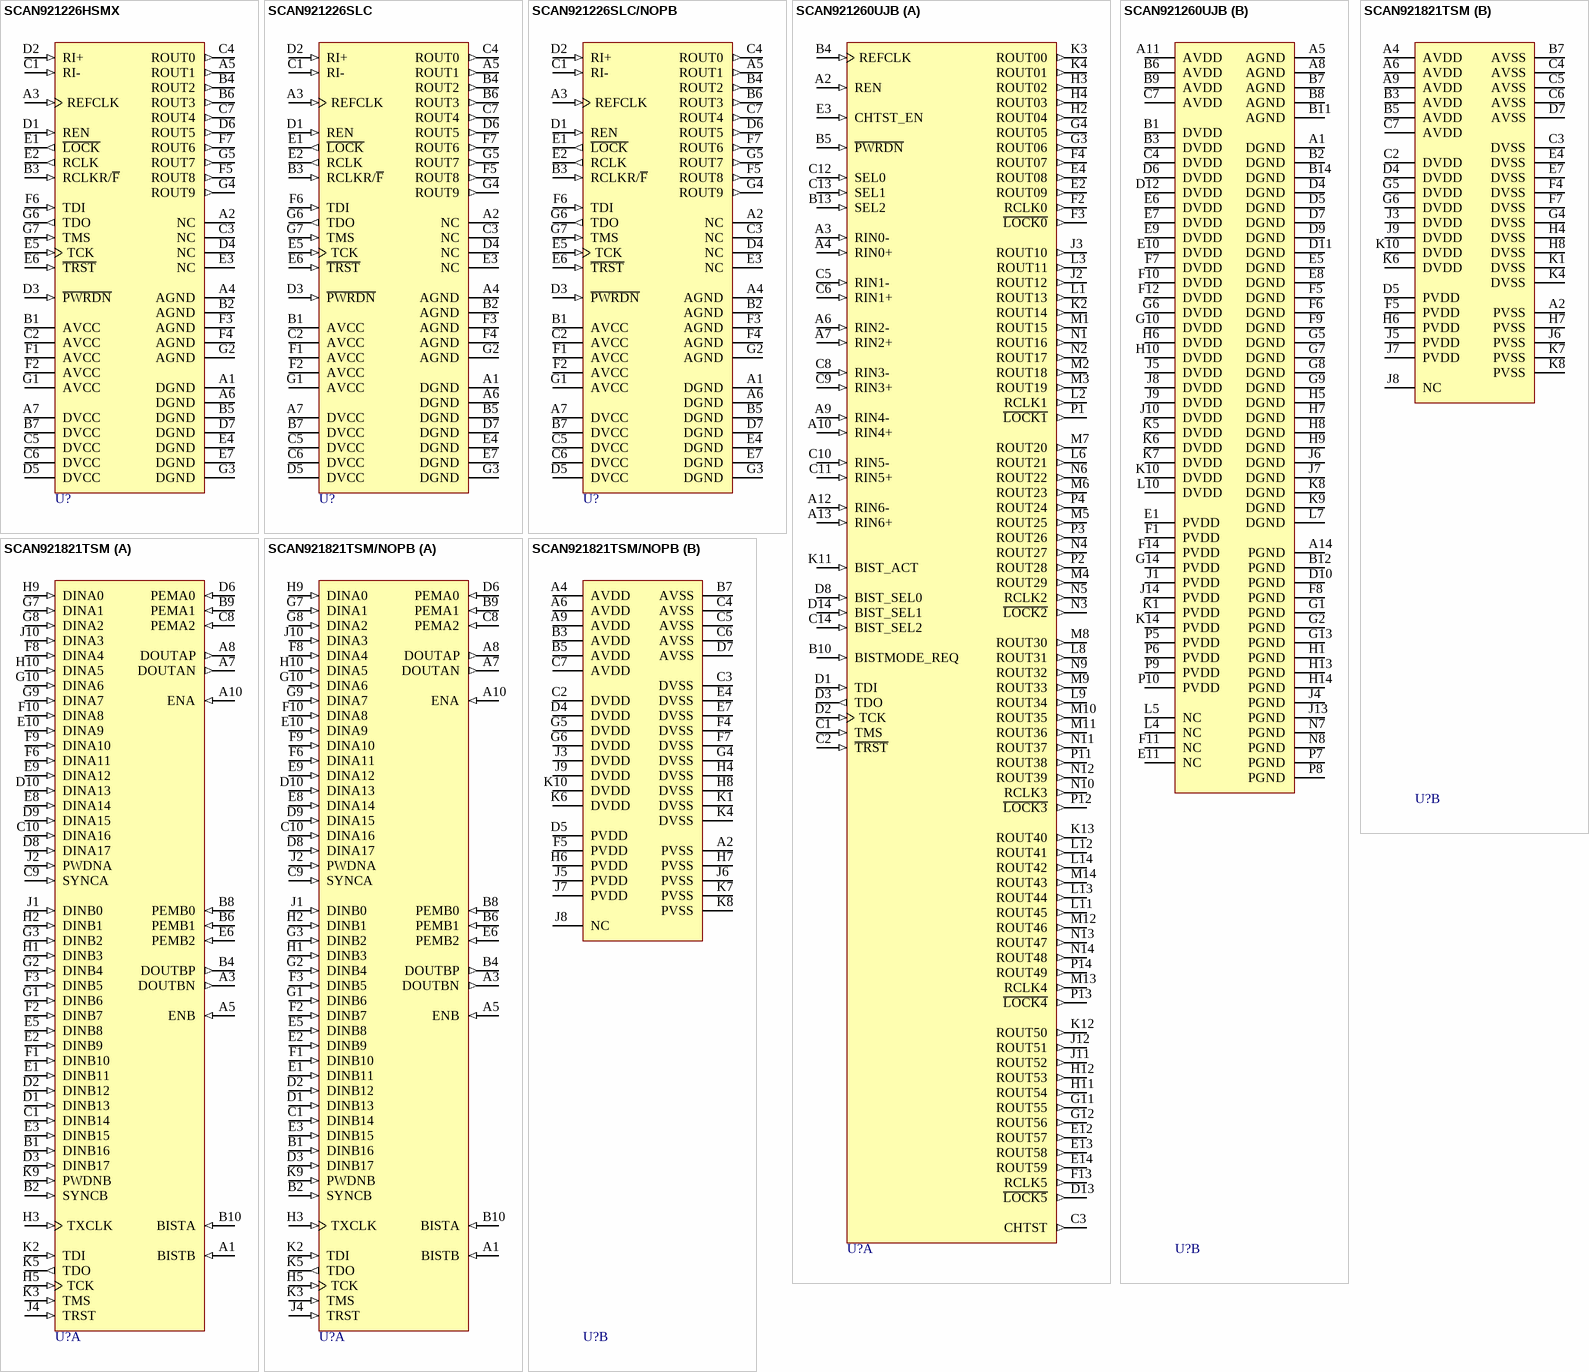
[diagram p115: symbols SCAN921226HSMX to SCAN921821TSM/NOPB]